# Altium footprint library TPS2553DRVT-1.PcbLib: 1 footprints
Each footprint in its own frame and in the unit in brackets; x right, y up, seen from the top. Pads: shape width x height; smd on the part's side, far side on the other; paste and mask are expansions set on the pad; w line width, h text height; cw(c..) or ccw(c..) is an arc to the next point about the centre after c.
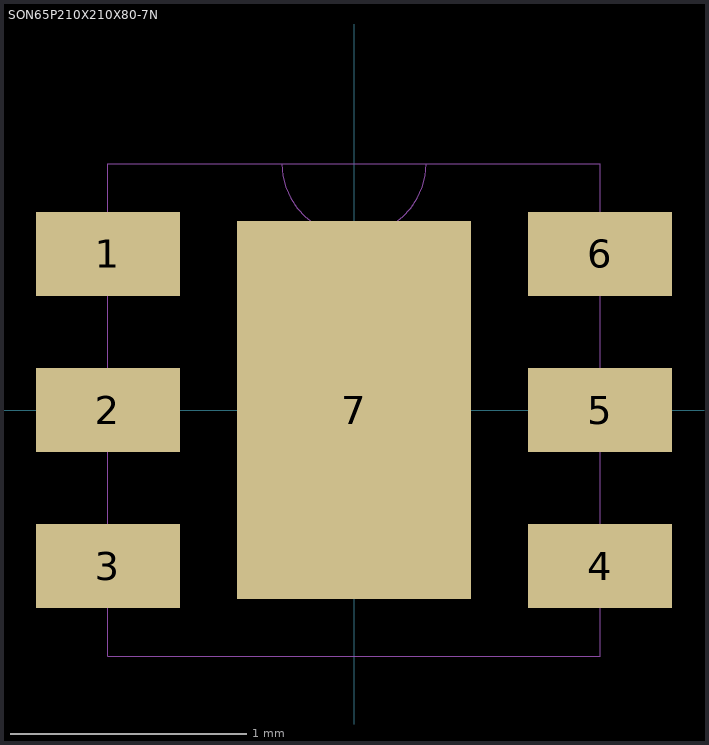
[diagram p0: the footprint, top view; thin cyan lines are the x and y axes]

## SON65P210X210X80-7N [mil]
pads (7):
  rect 24x14 smd: 1(-41,26) 2(-41,0) 3(-41,-26) 4(41,-26) 5(41,0) 6(41,26)
  rect 39x63 smd: 7(0,0)
Mechanical 1:
  lines w0: -12,41 ccw(c0,41) 12,41 ; -12,41 -41,41 -41,-41 41,-41 41,41 12,41 ; -12,41 12,41